# Altium schematic symbol library SI2302.SchLib: 1 symbol
Pins are listed as number, name and electrical type; pins without a type are passive.

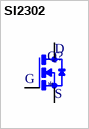
[diagram p0: symbol SI2302]

## SI2302
designator Q?
N-Channel 20 V 2.6A (Ta) 710mW (Ta) Surface Mount SOT-23-3 (TO-236); MF: Vishay Siliconix; MP: SI2302; SnapEDA_Link: https://www.snapeda.com/parts/SI2302/Vishay/view-part/?ref=snap; Package: SOT-23-3 Vishay Siliconix; Value: *; Check_prices: https://www.snapeda.com/parts/SI2302/Vishay/view-part/?ref=eda
footprint SOT23
pins: 1 G, 2 S, 3 D